# Altium footprint library SMD_size_D.PcbLib: 1 footprints
Each footprint in its own frame and in the unit in brackets; x right, y up, seen from the top. Pads: shape width x height; smd on the part's side, far side on the other; paste and mask are expansions set on the pad; w line width, h text height; cw(c..) or ccw(c..) is an arc to the next point about the centre after c.
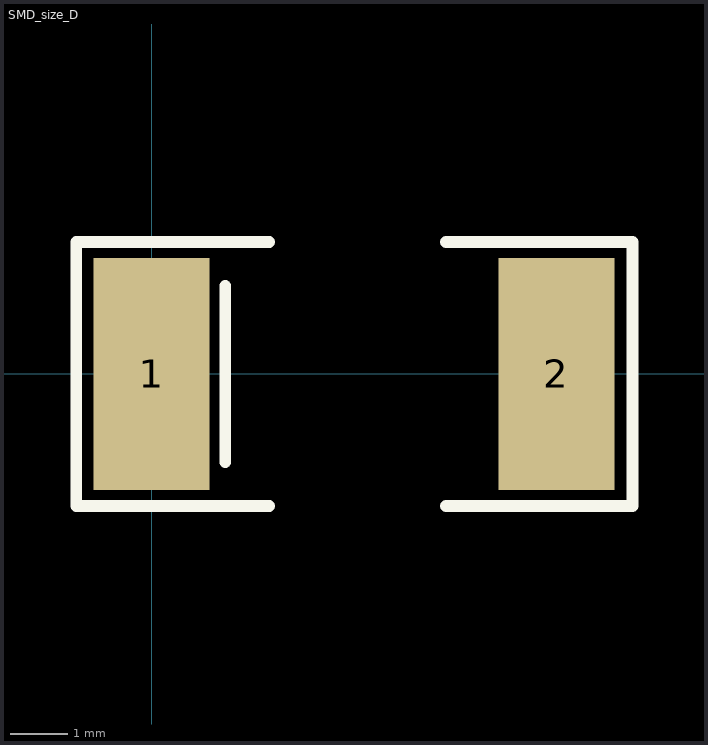
[diagram p0: the footprint, top view; thin cyan lines are the x and y axes]

## SMD_size_D [mm]
pads (2):
  rect 2x4 smd: 1(0,0) 2(6.985,0)
Top Overlay:
  lines w0.2: 1.27,-1.524 1.27,1.524 ; 2.032,-2.278 -1.3,-2.278 -1.3,2.278 2.032,2.278 ; 5.08,-2.278 8.3,-2.278 8.3,2.278 5.08,2.278
3D body "SMD_CaseX_7343-43.step": height 4, standoff 0, extent -0.15,-2.15 7.15,2.15